# Altium schematic symbol library 2 Pin Header.SchLib: 1 symbol
Pins are listed as number, name and electrical type; pins without a type are passive.

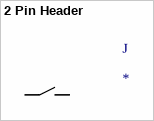
[diagram p0: symbol 2 Pin Header]

## 2 Pin Header
designator J
footprint 2 Pin Header
pins: 5, 6